# EAGLE library part CM8870 (library CaliforniaMicro)
DTMF Decoder from Californa Micro, http://www.calmicro.com
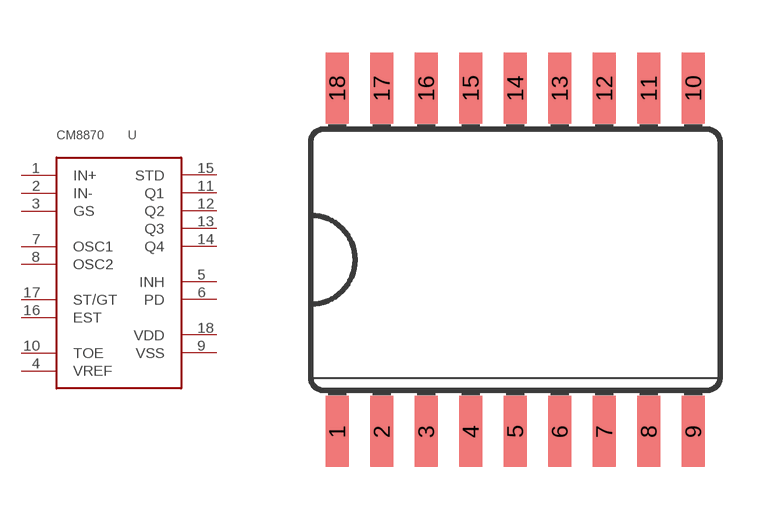
[diagram p0: symbol with the pads of SO18L; footprint SO18L]

Designator prefix -

## CM8870  [SO18L]
1  IN+  in
2  IN-  in
3  GS
4  VREF  out
5  INH  in
6  PD  in
7  OSC1
8  OSC2
9  VSS  sup
10  TOE  in
11  Q1
12  Q2
13  Q3
14  Q4
15  STD
16  EST
17  ST/GT
18  VDD  sup

## Footprint SO18L (pad centres in mm)
SO18 Large
smd 0.66 x 2.032: 1 -7.62,-2.362; 2 -6.35,-2.362; 3 -5.08,-2.362; 4 -3.81,-2.362; 5 -2.54,-2.362; 6 -1.27,-2.362; 7 0,-2.362; 8 1.27,-2.362; 9 2.54,-2.362; 10 2.54,7.442; 11 1.27,7.442; 12 0,7.442; 13 -1.27,7.442; 14 -2.54,7.442; 15 -3.81,7.442; 16 -5.08,7.442; 17 -6.35,7.442; 18 -7.62,7.442